# EAGLE library part LM2596S-3.3 (library LM2596S-3.3)
Conv DC-DC 4.5V to 40V Inv/Step Down Single-Out 3.3V 3A 6-Pin(5+Tab) TO-263 Tube Check availability <https://pricing.snapeda.com/parts/LM2596S-3.3/Texas%20Instruments/view-part?ref=eda>
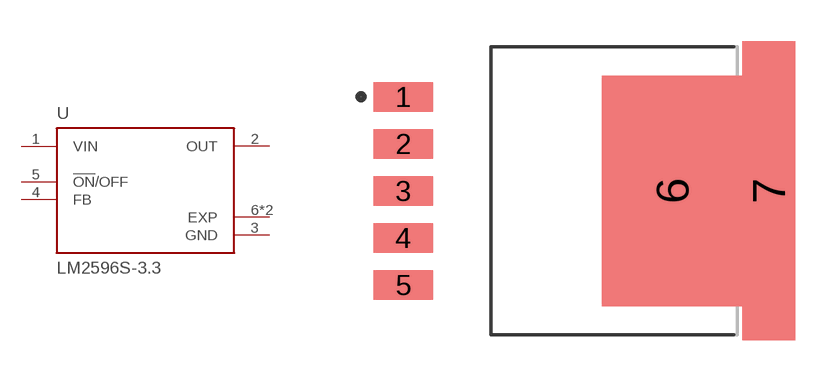
[diagram p0: symbol with the pads of VREG_LM2596S-3.3; footprint VREG_LM2596S-3.3]

Designator prefix U

## LM2596S-3.3 (Availability: In Stock; Description: SIMPLE SWITCHER&reg; 4.5V to 40V, 3A Low Component Count Step-Down Regulator 5-DDPAK/TO-263; MF: Texas Instruments; MP: LM2596S-3.3; Package: TO-263-5 Texas Instruments; Price: None; Purchase-URL: https://pricing.snapeda.com/search/part/LM2596S-3.3/?ref=eda)  [VREG_LM2596S-3.3]
1  VIN  in
2  OUT  out
3  GND  pwr
4  FB  in
5  !ON!/OFF  in
6  EXP  pwr
7  EXP  pwr

## Footprint VREG_LM2596S-3.3 (pad centres in mm)
smd 2.16 x 1.07: 1 -6.545,3.4; 2 -6.545,1.7; 3 -6.545,0; 4 -6.545,-1.7; 5 -6.545,-3.4
smd 5.08 x 8.33: 6 3.175,0
smd 1.91 x 10.8: 7 6.67,0